# Altium integrated library TI Step Motor Driver.IntLib: 3 symbols
Pins are listed as number, name and electrical type; pins without a type are passive.

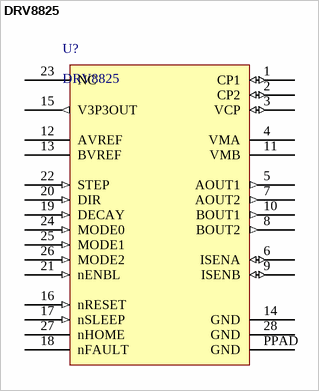
[diagram p0: symbol DRV8825]

## DRV8825
designator U?
Type: IC; URL: http://www.ti.com/cn/lit/ds/symlink/drv8825.pdf
footprint SOP28
pins: 1 CP1 (io), 2 CP2 (io), 3 VCP (io), 4 VMA, 5 AOUT1 (out), 6 ISENA (io), 7 AOUT2 (out), 8 BOUT2 (out), 9 ISENB (io), 10 BOUT1 (out), 11 VMB, 12 AVREF, 13 BVREF, 14 GND, 15 V3P3OUT (out), 16 nRESET (in), 17 nSLEEP (in), 18 nFAULT (oc), 19 DECAY (in), 20 DIR (in), 21 nENBL (in), 22 STEP (in), 23 NC, 24 MODE0 (in), 25 MODE1 (in), 26 MODE2 (in), 27 nHOME (oc), 28 GND, PPAD GND


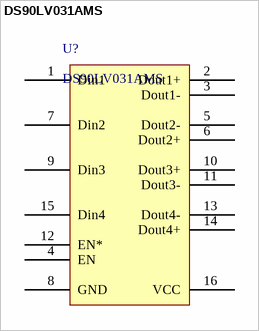
[diagram p1: symbol DS90LV031AMS]

## DS90LV031AMS
designator U?
3V LVDS Quad CMOS Differential Line Driver
footprint SOIC16 (SOIC, 16-Leads, Body 9.90x3.90mm, Pitch 1.27mm, IPC Medium Density)
pins: 1 Din1, 2 Dout1+, 3 Dout1-, 4 EN, 5 Dout2-, 6 Dout2+, 7 Din2, 8 GND, 9 Din3, 10 Dout3+, 11 Dout3-, 12 EN*, 13 Dout4-, 14 Dout4+, 15 Din4, 16 VCC


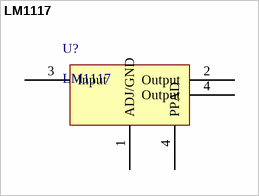
[diagram p2: symbol LM1117]

## LM1117
designator U?
Power Mgt Voltage Regulator
footprint SOT223-4M (SOT223, 4-Leads, Body 6.5x3.5mm, Pitch 2.3mm, Lead Span 7mm, IPC Low Density)
footprint SOT223-4N (SOT223, 4-Leads, Body 6.5x3.5mm, Pitch 2.3mm, Lead Span 7mm, IPC Medium Density)
footprint SOT223-4L (SOT223, 4-Leads, Body 6.5x3.5mm, Pitch 2.3mm, Lead Span 7mm, IPC High Density)
pins: 1 ADJ/GND (power), 2 Output (power), 3 Input (power), 4 PPAD, 4 Output (power)